# Altium schematic symbol library ICs - Sensors.SchLib: 3 symbols
Pins are listed as number, name and electrical type; pins without a type are passive.

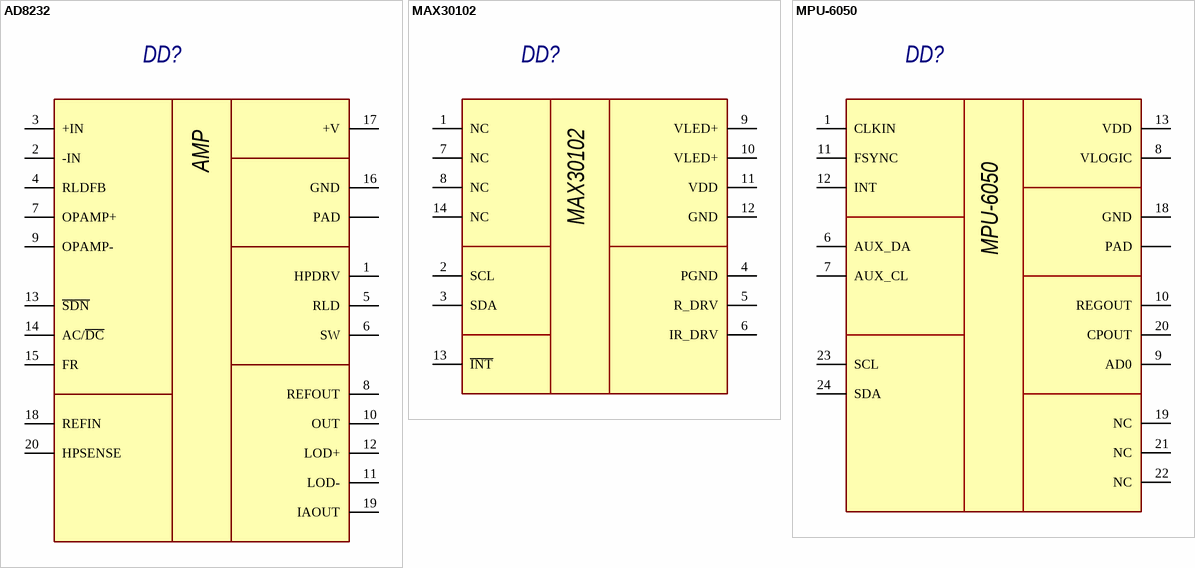
[diagram p0: symbols AD8232 to MPU-6050]

## AD8232
designator DD?  (value not drawn)
pins: 1 HPDRV, 2 -IN, 3 +IN, 4 RLDFB, 5 RLD, 6 SW, 7 OPAMP+, 8 REFOUT, 9 OPAMP-, 10 OUT, 11 LOD-, 12 LOD+, 13 ~{SDN}, 14 AC/~{DC}, 15 FR, 16 GND, 17 +V, 18 REFIN, 19 IAOUT, 20 HPSENSE, PAD
text: AMP

## MAX30102
designator DD?  (value not drawn)
pins: 1 NC, 2 SCL, 3 SDA, 4 PGND, 5 R_DRV, 6 IR_DRV, 7 NC, 8 NC, 9 VLED+, 10 VLED+, 11 VDD, 12 GND, 13 ~{INT}, 14 NC

## MPU-6050
designator DD?  (value not drawn)
pins: 1 CLKIN, 6 AUX_DA, 7 AUX_CL, 8 VLOGIC, 9 AD0, 10 REGOUT, 11 FSYNC, 12 INT, 13 VDD, 18 GND, 19 NC, 20 CPOUT, 21 NC, 22 NC, 23 SCL, 24 SDA, PAD